# EAGLE library part MP03718 (library golledge)
SAW Filter Example 402.0MHz Datasheet and Purchasing Information <http://www.golledge.com/docs/products/saw/gsrf_list.htm?src=eagle>
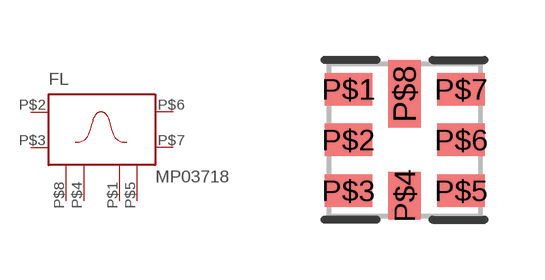
[diagram p6: symbol with the pads of SAW3.8X3.8P8; footprint SAW3.8X3.8P8]

Designator prefix FL

## MP03718 (HEIGHT: 1.4)  [SAW3.8X3.8P8]
P$1  P$2  pas
P$2  IN  pas
P$3  INBAR_OR_GND  pas
P$4  P$1  pas
P$5  CASE  pas
P$6  OUT  pas
P$7  OUTBAR_OR_GND  pas
P$8  CASE  pas

## Footprint SAW3.8X3.8P8 (pad centres in mm)
8 pad variant of the 3.8 mm square SAW package.
smd 1.19 x 0.81: P$1 -1.41,1.27; P$2 -1.41,0; P$3 -1.41,-1.27; P$5 1.41,-1.27; P$6 1.41,0; P$7 1.41,1.27
smd 0.81 x 1.19: P$4 0,-1.397
smd 0.81 x 1.7: P$8 0,1.155